# Altium schematic symbol library Lumos_Probe.SchLib: 6 symbols
Pins are listed as number, name and electrical type; pins without a type are passive.

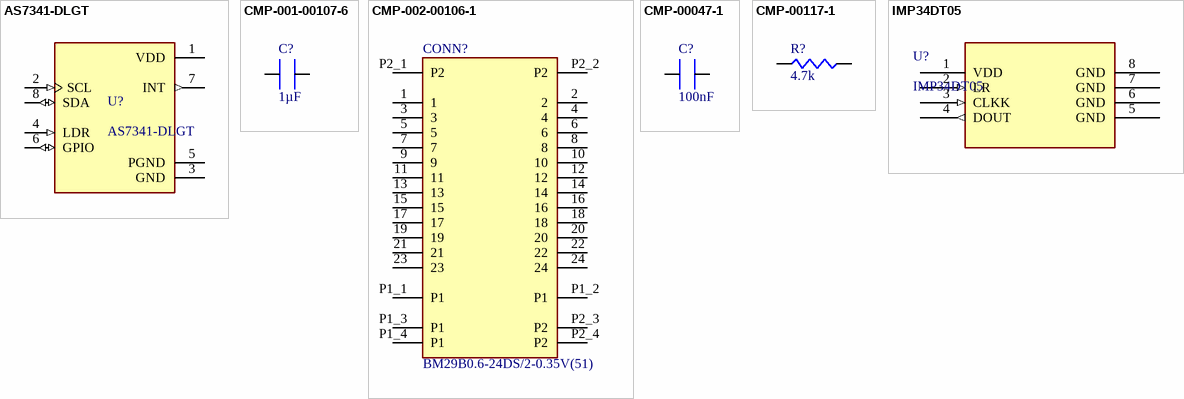
[diagram p0: symbols AS7341-DLGT to IMP34DT05]

## AS7341-DLGT
designator U?
Optical Sensor Ambient - IÂ²C 8-TFLGA; MF: ams; Package: TFLGA-8 ams; Purchase-URL: https://pricing.snapeda.com/search/part/AS7341-DLGT/?ref=eda; Availability: In Stock; MP: AS7341-DLGT; Check_prices: https://www.snapeda.com/parts/AS7341-DLGT/ams/view-part/?ref=eda; SnapEDA_Link: https://www.snapeda.com/parts/AS7341-DLGT/ams/view-part/?ref=snap; Price: None; Value: *; Supplier 1: Farnell; Supplier Part Number 1: 4328201; Supplier 2: Farnell; Supplier Part Number 2: AS7341-DLGT
footprint PSON80P310X200X110-8N
pins: 1 VDD (power), 2 SCL (in), 3 GND (power), 4 LDR (in), 5 PGND (power), 6 GPIO (io), 7 INT (out), 8 SDA (io)

## CMP-001-00107-6
designator C?, comment value 1µF  (hidden comment: 0402YD105KAT4A)
Ceramic Capacitor, Multilayer, Ceramic, 16V, 10% +Tol, 10% -Tol, X5R, 15% TC, 1uF, Surface Mount, 0402; Manufacturer: KYOCERA AVX; Min Operating Temperature: -55°C; RoHS Compliant: Yes; Case/Package: 0402; Pins: 2; Mounting Technology: Surface Mount; Max Operating Temperature: 85°C; Capacitor Type: Ceramic; Manufacturer Part Number: 0402YD105KAT4A; Component Type: Capacitors; Supplier 1: Avnet; Supplier Part Number 1: KGM05AR51C105KN
footprint Chip2PinSM127P600-8N
pins: 1, 2

## CMP-002-00106-1
designator CONN?, comment BM29B0.6-24DS/2-0.35V(51)
Connector Receptacle 26 Pos (24+2) SMD; Manufacturer: HIROSE ELECTRIC; Manufacturer Part Number: BM29B0.6-24DS/2-0.35V(51); Component Type: Connectors; Supplier 1: DigiKey; Supplier Part Number 1: 26-BM29B0.6-24DS/2-0.35V(53)CT-ND
footprint BM29B0.6-24DS_2-0.35V(51)-Footprint-1
pins: 1, 2, 3, 4, 5, 6, 7, 8, 9, 10, 11, 12, 13, 14, 15, 16, 17, 18, 19, 20, 21, 22, 23, 24, P1_1 P1 (power), P1_2 P1 (power), P1_3 P1 (power), P1_4 P1 (power), P2_1 P2 (power), P2_2 P2 (power), P2_3 P2 (power), P2_4 P2 (power)

## CMP-00047-1
designator C?, comment value 100nF  (hidden comment: 0402YC104JAT4A)
Ceramic Capacitor, Multilayer, Ceramic, 16V, 5% +Tol, 5% -Tol, X7R, 15% TC, 0.1uF, Surface Mount, 0402; Manufacturer: KYOCERA AVX; Multilayer: Yes; Rated DC Voltage (URdc): 16V; Tolerance  (fill in as +-): 5%; Dielectric Material: Ceramic; Reach SVHC Compliant: Yes; Package Style: SMTMeter; Mounting Technology: Surface Mount; Length: 1mm; Termination: Wraparound; Min Operating Temperature: -55°C; Width: 0.5mm; Tolerance (fill in as +-): 5%; Case/Package: 0402; Capacitor Type: Ceramic; RoHS Compliant: Yes; JESD-609 Code: e3; Max Operating Temperature: 125°C; Height: 0.56mm; Pins: 2; Package Shape: Rectangular; Packaging: Tape and Reel; Temperature Characteristics Code: X7R; Terminal Finish: Nickel; Manufacturer Part Number: 0402YC104JAT4A; Component Type: Capacitors; Supplier 1: Avnet; Supplier Part Number 1: KGM05AR71C104JN
footprint Chip2PinSM127P600-8N
pins: 1, 2

## CMP-00117-1
designator R?, comment value 4.7k  (hidden comment: CR0201-JW-472GLF)
Fixed Resistor, Metal Glaze/thick Film, 0.05W, 4700ohm, 30V, 5% +/-Tol, 200ppm/Cel, Surface Mount, 0201; Manufacturer: Bourns; Temperature Coefficient: 200ppm/°C; Working Voltage: 25V; Rated Temperature: 70°C; Package Height: 0.23mm; Power: 50mW; Package Width: 0.3mm; Package Length: 0.6mm; Max Operating Temperature: 125°C; Construction: Chip; Technology: RUTHENIUM OXIDE; Min Operating Temperature: -55°C; Terminal Finish: Nickel; Packaging: Tape and Reel; Pins: 2; Tolerance: 5%; Termination: Wraparound; Package Style: SMTMeter; Reach SVHC Compliant: Yes; Mounting Technology: Surface Mount; Package Shape: Rectangular; JESD-609 Code: e3; Case/Package: 0201; Resistor Type: FIXED RESISTOR; RoHS Compliant: Yes; Manufacturer Part Number: CR0201-JW-472GLF; Component Type: Resistors; Supplier 1: DigiKey; Supplier Part Number 1: 118-CR0201-JW-472GLFCT-ND
footprint Chip2PinSM127P600-8N
pins: 1, 2

## IMP34DT05
designator U?
MEMS audio sensor omnidirectional digital microphone for industrial applications; Manufacturer_Name: STMicroelectronics; Copyright: Copyright (C) 2025 Ultra Librarian. All rights reserved.; Manufacturer_Part_Number: IMP34DT05; RefDes: RefDes; Type: Type; Supplier 1: Farnell; Supplier Part Number 1: 2980886; Supplier 2: Farnell; Supplier Part Number 2: IMP34DT05TR
footprint HCLGA_3X4X1_STM
pins: 1 VDD (power), 2 LR (in), 3 CLKK (in), 4 DOUT (out), 5 GND (power), 6 GND (power), 7 GND (power), 8 GND (power)